# Altium integrated library Linear Technology Power Management LED Driver ICs.IntLib: 490 symbols (part 34 of 48)
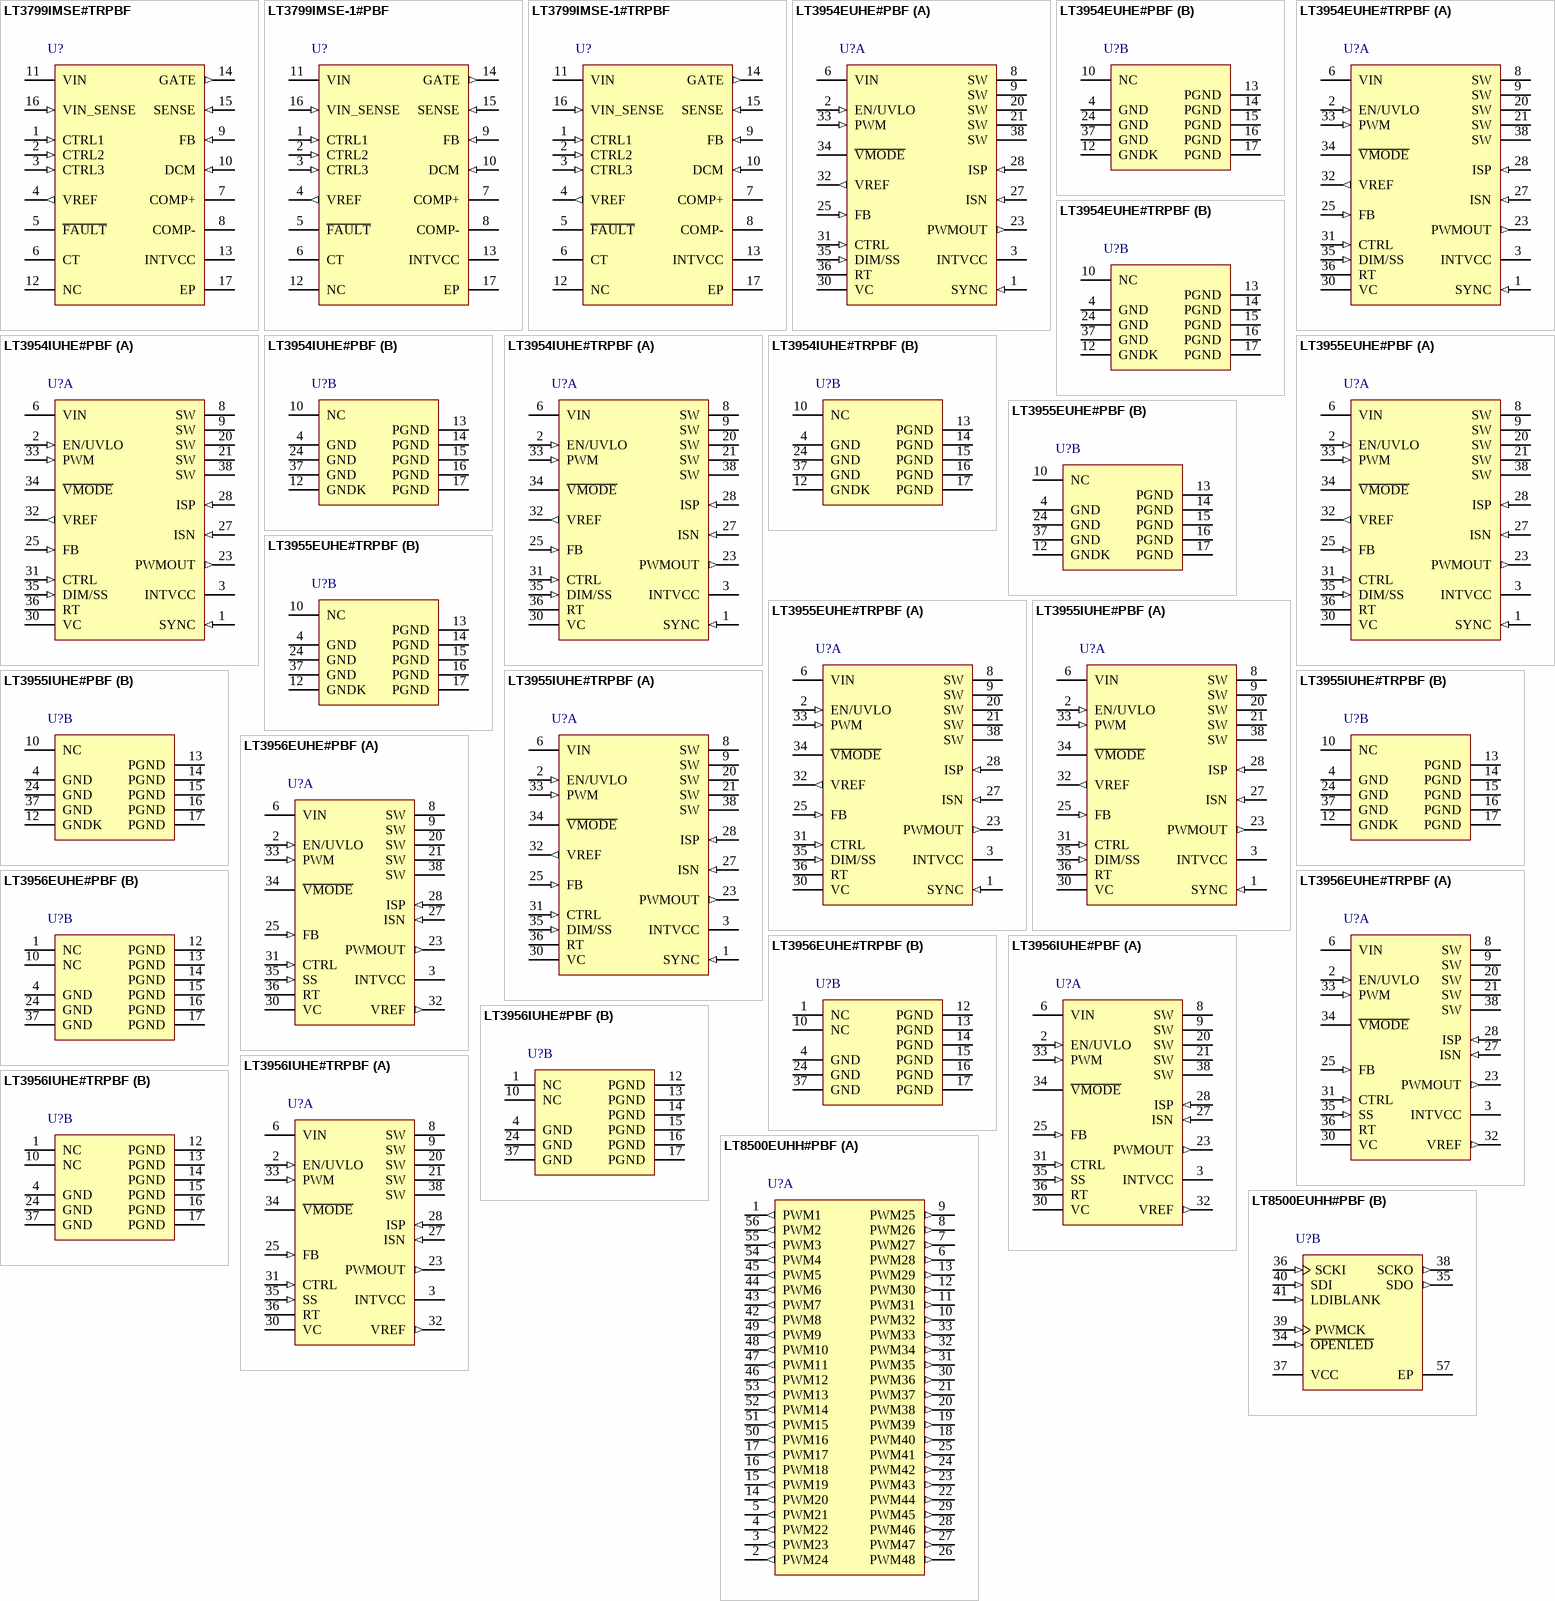
[diagram p53: symbols LT3799IMSE#TRPBF to LT8500EUHH#PBF]

## LT3954IUHE#TRPBF
designator U?
LED Converter with Internal PWM Generator, 4.5 to 40 V Vin, 40 V Vout MAX, 36-pin QFN (UHE-36-V-UHE28MA), -40 to 125 degC, Pb-Free, Tape and Reel; Manufacturer: Linear Technology; PartNumber: LT3954IUHE#TRPBF; Topology: Buck, Boost, Sepic, Buck-Boost, LED Driver; Vin Min(V): 4.5; PackageVersion: Rev. D, 02/2012; PackageReference: UHE-36; PackageDescription: 28-Pin Plastic QFN, Body 5 x 6 mm, Pitch 0.5 mm; Packing: Tape and Reel; RoHS: TRUE; Mounting Technology: Surface Mount; ComponentLink1Description: Manufacturer URL; ComponentLink1URL: http://www.linear.com/; ComponentLink2Description: Datasheet; ComponentLink2URL: http://cds.linear.com/docs/en/datasheet/3954f.pdf; ComponentLink3Description: Package Specification; ComponentLink3URL: http://cds.linear.com/docs/en/packaging/QFN_28_05-08-1836.pdf
footprint LT-UHE-36-V-UHE28MA_V (QFN, 28-Leads, Body 6x5mm, Pitch 0.5mm)
part A pins: 1 SYNC (in) "Frequency Synchronization Pin. Used to synchronize the internal oscillator to an outside clock. If this feature is used, an RT resistor should be chosen to program a switching frequency 20% slower than SYNC pulse frequency. (See Datasheet)", 2 EN/UVLO (in) "Enable and Undervoltage Detect Pin. An accurate 1.22V falling threshold with externally programmable hysteresis causes the switching regulator to shut down when power is insufficient to maintain output regulation. Above the (See Datasheet)", 3 INTVCC (power) "Current limited, low dropout linear regulator regulates to 7.85V (typical) from VIN. Supplies internal loads, SW and PWMOUT drivers. Must be bypassed with a 1uF ceramic capacitor placed close to the pin and to the exposed (See Datasheet)", 6 VIN (power) "Power Supply for Internal Loads and INTVCC Regulator. Must be locally bypassed with a 0.22uF (or larger) low ESR capacitor placed close to the pin.", 8 SW (power) "Drain of Internal Power N-channel MOSFET.", 9 SW (power) "Drain of Internal Power N-channel MOSFET.", 20 SW (power) "Drain of Internal Power N-channel MOSFET.", 21 SW (power) "Drain of Internal Power N-channel MOSFET.", 23 PWMOUT (out) "Buffered Version of PWM Signal for Driving LED Load Disconnect NMOS or Level Shift. This pin also serves in a protection function for the FB overvoltage condition-will toggle if the FB input is greater than the FB regulation (See Datasheet)", 25 FB (in) "Voltage Loop Feedback Pin. FB is intended for constant-voltage regulation or for LED protection and open LED detection. The internal transconductance amplifier with output VC will regulate FB to 1.25V (nominal) through the (See Datasheet)", 27 ISN (in) "Connection Point for the Negative Terminal of the Current Feedback Resistor. The constant output current regulation can be programmed by ILED = 250mV/ RLED when CTRL > 1.2V or ILED = (CTRL - 100mV)/(4 ? RLED). If ISN i(See Datasheet)", 28 ISP (in) "Connection Point for the Positive Terminal of the Current Feedback Resistor. Input bias current depends upon CTRL pin voltage. When it is greater than INTVCC it flows into the pin. Below INTVCC, ISP bias current decreases (See Datasheet)", 30 VC "Transconductance Error Amplifier Output Pin Used to Stabilize the Switching Regulator Control Loop with an RC Network. The VC pin is high impedance when PWM is low. This feature allows the VC pin to store the demand current (See Datasheet)", 31 CTRL (in) "Current Sense Threshold Adjustment Pin. Constant current regulation point VISP-ISN is one-fourth VCTRL plus an offset for 0V = CTRL = 1V. For CTRL > 1.2V the VISP-ISN current regulation point is constant at the full-scale (See Datasheet)", 32 VREF (out) "Voltage Reference Output Pin, Typically 2V. This pin drives a resistor divider for the CTRL pin, either for analog dimming or for temperature limit/compensation of LED load. It can be bypassed with 10nF or greater, or less (See Datasheet)", 33 PWM (in) "A signal low turns off switcher, idles the oscillator and disconnects the VC pin from all internal loads. PWMOUT pin follows the PWM pin, except in fault conditions. The PWM pin can be driven with a digital signal to cause (See Datasheet)", 34 ~{VMODE} (oc) "An open-drain pull-down on this pin asserts if the FB input is greater than the FB regulation voltage (VFB) minus 50mV (typical) AND the differenc between current sense inputs ISP and ISN is less than 25mV. To function, the (See Datasheet)", 35 DIM/SS (in) "Soft-Start and PWM Dimming Signal Generator Programming Pin. This pin modulates switching regulator frequency and compensation pin voltage (VC) clamp when it is below 1V. The soft-start interval is set with an external (See Datasheet)", 36 RT "Switching Frequency Adjustment Pin. Set the frequency using a resistor to GND (for resistor values, see the Typical Performance curve or Table 2). Do not leave the RT pin open. Place the resistor close to the IC.", 38 SW (power) "Drain of Internal Power N-channel MOSFET."
part B pins: 4 GND (power) "Ground. Solder the exposed pads directly to the ground plane.", 10 NC, 12 GNDK (power) "Kelvin Connection Pin between PGND and GND. Kelvin connect this pin to the GND plane close to the IC. See the Board Layout section.", 13 PGND (power) "Source Terminal Switch and the GND Input to the Switch Current Comparator.", 14 PGND (power) "Source Terminal Switch and the GND Input to the Switch Current Comparator.", 15 PGND (power) "Source Terminal Switch and the GND Input to the Switch Current Comparator.", 16 PGND (power) "Source Terminal Switch and the GND Input to the Switch Current Comparator.", 17 PGND (power) "Source Terminal Switch and the GND Input to the Switch Current Comparator.", 24 GND (power) "Ground. Solder the exposed pads directly to the ground plane.", 37 GND (power) "Ground. Solder the exposed pads directly to the ground plane."

## LT3955EUHE#PBF
designator U?
LED Converter with Internal PWM Generator, 4.5 to 60 V Vin, 80 V Vout MAX, 28-pin QFN (UHE-36-V-UHE28MA), -40 to 125 degC, Pb-Free; Manufacturer: Linear Technology; PartNumber: LT3955EUHE#PBF; Topology: Buck, Boost, Sepic, Buck-Boost, LED Driver; Vin Min(V): 4.5; PackageVersion: Rev. D, 02/2012; PackageReference: UHE-36; PackageDescription: 28-Pin Plastic QFN, Body 5 x 6 mm, Pitch 0.5 mm; Supplier 1: Digi-Key; Supplier Part Number 1: LT3955EUHE#PBF-ND; Supplier 2: Newark; Supplier Part Number 2: 04X5428; RoHS: TRUE; Mounting Technology: Surface Mount; ComponentLink1Description: Manufacturer URL; ComponentLink1URL: http://www.linear.com/; ComponentLink2Description: Datasheet; ComponentLink2URL: http://cds.linear.com/docs/en/datasheet/3955f.pdf; ComponentLink3Description: Package Specification; ComponentLink3URL: http://cds.linear.com/docs/en/packaging/QFN_28_05-08-1836.pdf
footprint LT-UHE-36-V-UHE28MA_V (QFN, 28-Leads, Body 6x5mm, Pitch 0.5mm)
part A pins: 1 SYNC (in) "Frequency Synchronization Pin. Used to synchronize the internal oscillator to an outside clock. If this feature is used, an RT resistor should be chosen to program a switching frequency 20% slower than SYNC pulse frequency. (See Datasheet)", 2 EN/UVLO (in) "Enable and Undervoltage Detect Pin. An accurate 1.22V falling threshold with externally programmable hysteresis causes the switching regulator to shut down when power is insufficient to maintain output regulation. Above the (See Datasheet)", 3 INTVCC (power) "Current limited, low dropout linear regulator regulates to 7.85V (typical) from VIN. Supplies internal loads, SW and PWMOUT drivers. Must be bypassed with a 1uF ceramic capacitor placed close to the pin and to the exposed (See Datasheet)", 6 VIN (power) "Power Supply for Internal Loads and INTVCC Regulator. Must be locally bypassed with a 0.22uF (or larger) low ESR capacitor placed close to the pin.", 8 SW (power) "Drain of Internal Power N-channel MOSFET.", 9 SW (power) "Drain of Internal Power N-channel MOSFET.", 20 SW (power) "Drain of Internal Power N-channel MOSFET.", 21 SW (power) "Drain of Internal Power N-channel MOSFET.", 23 PWMOUT (out) "Buffered Version of PWM Signal for Driving LED Load Disconnect NMOS or Level Shift. This pin also serves in a protection function for the FB overvoltage condition-will toggle if the FB input is greater than the FB regulation (See Datasheet)", 25 FB (in) "Voltage Loop Feedback Pin. FB is intended for constant-voltage regulation or for LED protection and open LED detection. The internal transconductance amplifier with output VC will regulate FB to 1.25V (nominal) through the (See Datasheet)", 27 ISN (in) "Connection Point for the Negative Terminal of the Current Feedback Resistor. The constant output current regulation can be programmed by ILED = 250mV/ RLED when CTRL > 1.2V or ILED = (CTRL - 100mV)/(4 ? RLED). If ISN i(See Datasheet)", 28 ISP (in) "Connection Point for the Positive Terminal of the Current Feedback Resistor. Input bias current depends upon CTRL pin voltage. When it is greater than INTVCC it flows into the pin. Below INTVCC, ISP bias current decreases (See Datasheet)", 30 VC "Transconductance Error Amplifier Output Pin Used to Stabilize the Switching Regulator Control Loop with an RC Network. The VC pin is high impedance when PWM is low. This feature allows the VC pin to store the demand current (See Datasheet)", 31 CTRL (in) "Current Sense Threshold Adjustment Pin. Constant current regulation point VISP-ISN is one-fourth VCTRL plus an offset for 0V = CTRL = 1V. For CTRL > 1.2V the VISP-ISN current regulation point is constant at the full-scale (See Datasheet)", 32 VREF (out) "Voltage Reference Output Pin, Typically 2V. This pin drives a resistor divider for the CTRL pin, either for analog dimming or for temperature limit/compensation of LED load. It can be bypassed with 10nF or greater, or less (See Datasheet)", 33 PWM (in) "A signal low turns off switcher, idles the oscillator and disconnects the VC pin from all internal loads. PWMOUT pin follows the PWM pin, except in fault conditions. The PWM pin can be driven with a digital signal to cause (See Datasheet)", 34 ~{VMODE} (oc) "An open-drain pull-down on this pin asserts if the FB input is greater than the FB regulation voltage (VFB) minus 50mV (typical) AND the differenc between current sense inputs ISP and ISN is less than 25mV. To function, the (See Datasheet)", 35 DIM/SS (in) "Soft-Start and PWM Dimming Signal Generator Programming Pin. This pin modulates switching regulator frequency and compensation pin voltage (VC) clamp when it is below 1V. The soft-start interval is set with an external (See Datasheet)", 36 RT "Switching Frequency Adjustment Pin. Set the frequency using a resistor to GND (for resistor values, see the Typical Performance curve or Table 2). Do not leave the RT pin open. Place the resistor close to the IC.", 38 SW (power) "Drain of Internal Power N-channel MOSFET."
part B pins: 4 GND (power) "Ground. Solder the exposed pads directly to the ground plane.", 10 NC, 12 GNDK (power) "Kelvin Connection Pin between PGND and GND. Kelvin connect this pin to the GND plane close to the IC. See the Board Layout section.", 13 PGND (power) "Source Terminal Switch and the GND Input to the Switch Current Comparator.", 14 PGND (power) "Source Terminal Switch and the GND Input to the Switch Current Comparator.", 15 PGND (power) "Source Terminal Switch and the GND Input to the Switch Current Comparator.", 16 PGND (power) "Source Terminal Switch and the GND Input to the Switch Current Comparator.", 17 PGND (power) "Source Terminal Switch and the GND Input to the Switch Current Comparator.", 24 GND (power) "Ground. Solder the exposed pads directly to the ground plane.", 37 GND (power) "Ground. Solder the exposed pads directly to the ground plane."

## LT3955EUHE#TRPBF
designator U?
LED Converter with Internal PWM Generator, 4.5 to 60 V Vin, 80 V Vout MAX, 28-pin QFN (UHE-36-V-UHE28MA), -40 to 125 degC, Pb-Free, Tape and Reel; Manufacturer: Linear Technology; PartNumber: LT3955EUHE#TRPBF; Topology: Buck, Boost, Sepic, Buck-Boost, LED Driver; Vin Min(V): 4.5; PackageVersion: Rev. D, 02/2012; PackageReference: UHE-36; PackageDescription: 28-Pin Plastic QFN, Body 5 x 6 mm, Pitch 0.5 mm; Supplier 1: Digi-Key; Supplier Part Number 1: LT3955EUHE#TRPBF-ND; Supplier 2: Newark; Supplier Part Number 2: 04X5429; Packing: Tape and Reel; RoHS: TRUE; Mounting Technology: Surface Mount; ComponentLink1Description: Manufacturer URL; ComponentLink1URL: http://www.linear.com/; ComponentLink2Description: Datasheet; ComponentLink2URL: http://cds.linear.com/docs/en/datasheet/3955f.pdf; ComponentLink3Description: Package Specification; ComponentLink3URL: http://cds.linear.com/docs/en/packaging/QFN_28_05-08-1836.pdf
footprint LT-UHE-36-V-UHE28MA_V (QFN, 28-Leads, Body 6x5mm, Pitch 0.5mm)
part A pins: 1 SYNC (in) "Frequency Synchronization Pin. Used to synchronize the internal oscillator to an outside clock. If this feature is used, an RT resistor should be chosen to program a switching frequency 20% slower than SYNC pulse frequency. (See Datasheet)", 2 EN/UVLO (in) "Enable and Undervoltage Detect Pin. An accurate 1.22V falling threshold with externally programmable hysteresis causes the switching regulator to shut down when power is insufficient to maintain output regulation. Above the (See Datasheet)", 3 INTVCC (power) "Current limited, low dropout linear regulator regulates to 7.85V (typical) from VIN. Supplies internal loads, SW and PWMOUT drivers. Must be bypassed with a 1uF ceramic capacitor placed close to the pin and to the exposed (See Datasheet)", 6 VIN (power) "Power Supply for Internal Loads and INTVCC Regulator. Must be locally bypassed with a 0.22uF (or larger) low ESR capacitor placed close to the pin.", 8 SW (power) "Drain of Internal Power N-channel MOSFET.", 9 SW (power) "Drain of Internal Power N-channel MOSFET.", 20 SW (power) "Drain of Internal Power N-channel MOSFET.", 21 SW (power) "Drain of Internal Power N-channel MOSFET.", 23 PWMOUT (out) "Buffered Version of PWM Signal for Driving LED Load Disconnect NMOS or Level Shift. This pin also serves in a protection function for the FB overvoltage condition-will toggle if the FB input is greater than the FB regulation (See Datasheet)", 25 FB (in) "Voltage Loop Feedback Pin. FB is intended for constant-voltage regulation or for LED protection and open LED detection. The internal transconductance amplifier with output VC will regulate FB to 1.25V (nominal) through the (See Datasheet)", 27 ISN (in) "Connection Point for the Negative Terminal of the Current Feedback Resistor. The constant output current regulation can be programmed by ILED = 250mV/ RLED when CTRL > 1.2V or ILED = (CTRL - 100mV)/(4 ? RLED). If ISN i(See Datasheet)", 28 ISP (in) "Connection Point for the Positive Terminal of the Current Feedback Resistor. Input bias current depends upon CTRL pin voltage. When it is greater than INTVCC it flows into the pin. Below INTVCC, ISP bias current decreases (See Datasheet)", 30 VC "Transconductance Error Amplifier Output Pin Used to Stabilize the Switching Regulator Control Loop with an RC Network. The VC pin is high impedance when PWM is low. This feature allows the VC pin to store the demand current (See Datasheet)", 31 CTRL (in) "Current Sense Threshold Adjustment Pin. Constant current regulation point VISP-ISN is one-fourth VCTRL plus an offset for 0V = CTRL = 1V. For CTRL > 1.2V the VISP-ISN current regulation point is constant at the full-scale (See Datasheet)", 32 VREF (out) "Voltage Reference Output Pin, Typically 2V. This pin drives a resistor divider for the CTRL pin, either for analog dimming or for temperature limit/compensation of LED load. It can be bypassed with 10nF or greater, or less (See Datasheet)", 33 PWM (in) "A signal low turns off switcher, idles the oscillator and disconnects the VC pin from all internal loads. PWMOUT pin follows the PWM pin, except in fault conditions. The PWM pin can be driven with a digital signal to cause (See Datasheet)", 34 ~{VMODE} (oc) "An open-drain pull-down on this pin asserts if the FB input is greater than the FB regulation voltage (VFB) minus 50mV (typical) AND the differenc between current sense inputs ISP and ISN is less than 25mV. To function, the (See Datasheet)", 35 DIM/SS (in) "Soft-Start and PWM Dimming Signal Generator Programming Pin. This pin modulates switching regulator frequency and compensation pin voltage (VC) clamp when it is below 1V. The soft-start interval is set with an external (See Datasheet)", 36 RT "Switching Frequency Adjustment Pin. Set the frequency using a resistor to GND (for resistor values, see the Typical Performance curve or Table 2). Do not leave the RT pin open. Place the resistor close to the IC.", 38 SW (power) "Drain of Internal Power N-channel MOSFET."
part B pins: 4 GND (power) "Ground. Solder the exposed pads directly to the ground plane.", 10 NC, 12 GNDK (power) "Kelvin Connection Pin between PGND and GND. Kelvin connect this pin to the GND plane close to the IC. See the Board Layout section.", 13 PGND (power) "Source Terminal Switch and the GND Input to the Switch Current Comparator.", 14 PGND (power) "Source Terminal Switch and the GND Input to the Switch Current Comparator.", 15 PGND (power) "Source Terminal Switch and the GND Input to the Switch Current Comparator.", 16 PGND (power) "Source Terminal Switch and the GND Input to the Switch Current Comparator.", 17 PGND (power) "Source Terminal Switch and the GND Input to the Switch Current Comparator.", 24 GND (power) "Ground. Solder the exposed pads directly to the ground plane.", 37 GND (power) "Ground. Solder the exposed pads directly to the ground plane."

## LT3955IUHE#PBF
designator U?
LED Converter with Internal PWM Generator, 4.5 to 60 V Vin, 80 V Vout MAX, 28-pin QFN (UHE-36-V-UHE28MA), -40 to 125 degC, Pb-Free; Manufacturer: Linear Technology; PartNumber: LT3955IUHE#PBF; Topology: Buck, Boost, Sepic, Buck-Boost, LED Driver; Vin Min(V): 4.5; PackageVersion: Rev. D, 02/2012; PackageReference: UHE-36; PackageDescription: 28-Pin Plastic QFN, Body 5 x 6 mm, Pitch 0.5 mm; Supplier 1: Digi-Key; Supplier Part Number 1: LT3955IUHE#PBF-ND; Supplier 2: Newark; Supplier Part Number 2: 04X5430; RoHS: TRUE; Mounting Technology: Surface Mount; ComponentLink1Description: Manufacturer URL; ComponentLink1URL: http://www.linear.com/; ComponentLink2Description: Datasheet; ComponentLink2URL: http://cds.linear.com/docs/en/datasheet/3955f.pdf; ComponentLink3Description: Package Specification; ComponentLink3URL: http://cds.linear.com/docs/en/packaging/QFN_28_05-08-1836.pdf
footprint LT-UHE-36-V-UHE28MA_V (QFN, 28-Leads, Body 6x5mm, Pitch 0.5mm)
part A pins: 1 SYNC (in) "Frequency Synchronization Pin. Used to synchronize the internal oscillator to an outside clock. If this feature is used, an RT resistor should be chosen to program a switching frequency 20% slower than SYNC pulse frequency. (See Datasheet)", 2 EN/UVLO (in) "Enable and Undervoltage Detect Pin. An accurate 1.22V falling threshold with externally programmable hysteresis causes the switching regulator to shut down when power is insufficient to maintain output regulation. Above the (See Datasheet)", 3 INTVCC (power) "Current limited, low dropout linear regulator regulates to 7.85V (typical) from VIN. Supplies internal loads, SW and PWMOUT drivers. Must be bypassed with a 1uF ceramic capacitor placed close to the pin and to the exposed (See Datasheet)", 6 VIN (power) "Power Supply for Internal Loads and INTVCC Regulator. Must be locally bypassed with a 0.22uF (or larger) low ESR capacitor placed close to the pin.", 8 SW (power) "Drain of Internal Power N-channel MOSFET.", 9 SW (power) "Drain of Internal Power N-channel MOSFET.", 20 SW (power) "Drain of Internal Power N-channel MOSFET.", 21 SW (power) "Drain of Internal Power N-channel MOSFET.", 23 PWMOUT (out) "Buffered Version of PWM Signal for Driving LED Load Disconnect NMOS or Level Shift. This pin also serves in a protection function for the FB overvoltage condition-will toggle if the FB input is greater than the FB regulation (See Datasheet)", 25 FB (in) "Voltage Loop Feedback Pin. FB is intended for constant-voltage regulation or for LED protection and open LED detection. The internal transconductance amplifier with output VC will regulate FB to 1.25V (nominal) through the (See Datasheet)", 27 ISN (in) "Connection Point for the Negative Terminal of the Current Feedback Resistor. The constant output current regulation can be programmed by ILED = 250mV/ RLED when CTRL > 1.2V or ILED = (CTRL - 100mV)/(4 ? RLED). If ISN i(See Datasheet)", 28 ISP (in) "Connection Point for the Positive Terminal of the Current Feedback Resistor. Input bias current depends upon CTRL pin voltage. When it is greater than INTVCC it flows into the pin. Below INTVCC, ISP bias current decreases (See Datasheet)", 30 VC "Transconductance Error Amplifier Output Pin Used to Stabilize the Switching Regulator Control Loop with an RC Network. The VC pin is high impedance when PWM is low. This feature allows the VC pin to store the demand current (See Datasheet)", 31 CTRL (in) "Current Sense Threshold Adjustment Pin. Constant current regulation point VISP-ISN is one-fourth VCTRL plus an offset for 0V = CTRL = 1V. For CTRL > 1.2V the VISP-ISN current regulation point is constant at the full-scale (See Datasheet)", 32 VREF (out) "Voltage Reference Output Pin, Typically 2V. This pin drives a resistor divider for the CTRL pin, either for analog dimming or for temperature limit/compensation of LED load. It can be bypassed with 10nF or greater, or less (See Datasheet)", 33 PWM (in) "A signal low turns off switcher, idles the oscillator and disconnects the VC pin from all internal loads. PWMOUT pin follows the PWM pin, except in fault conditions. The PWM pin can be driven with a digital signal to cause (See Datasheet)", 34 ~{VMODE} (oc) "An open-drain pull-down on this pin asserts if the FB input is greater than the FB regulation voltage (VFB) minus 50mV (typical) AND the differenc between current sense inputs ISP and ISN is less than 25mV. To function, the (See Datasheet)", 35 DIM/SS (in) "Soft-Start and PWM Dimming Signal Generator Programming Pin. This pin modulates switching regulator frequency and compensation pin voltage (VC) clamp when it is below 1V. The soft-start interval is set with an external (See Datasheet)", 36 RT "Switching Frequency Adjustment Pin. Set the frequency using a resistor to GND (for resistor values, see the Typical Performance curve or Table 2). Do not leave the RT pin open. Place the resistor close to the IC.", 38 SW (power) "Drain of Internal Power N-channel MOSFET."
part B pins: 4 GND (power) "Ground. Solder the exposed pads directly to the ground plane.", 10 NC, 12 GNDK (power) "Kelvin Connection Pin between PGND and GND. Kelvin connect this pin to the GND plane close to the IC. See the Board Layout section.", 13 PGND (power) "Source Terminal Switch and the GND Input to the Switch Current Comparator.", 14 PGND (power) "Source Terminal Switch and the GND Input to the Switch Current Comparator.", 15 PGND (power) "Source Terminal Switch and the GND Input to the Switch Current Comparator.", 16 PGND (power) "Source Terminal Switch and the GND Input to the Switch Current Comparator.", 17 PGND (power) "Source Terminal Switch and the GND Input to the Switch Current Comparator.", 24 GND (power) "Ground. Solder the exposed pads directly to the ground plane.", 37 GND (power) "Ground. Solder the exposed pads directly to the ground plane."

## LT3955IUHE#TRPBF
designator U?
LED Converter with Internal PWM Generator, 4.5 to 60 V Vin, 80 V Vout MAX, 28-pin QFN (UHE-36-V-UHE28MA), -40 to 125 degC, Pb-Free, Tape and Reel; Manufacturer: Linear Technology; PartNumber: LT3955IUHE#TRPBF; Topology: Buck, Boost, Sepic, Buck-Boost, LED Driver; Vin Min(V): 4.5; PackageVersion: Rev. D, 02/2012; PackageReference: UHE-36; PackageDescription: 28-Pin Plastic QFN, Body 5 x 6 mm, Pitch 0.5 mm; Supplier 1: Digi-Key; Supplier Part Number 1: LT3955IUHE#TRPBF-ND; Supplier 2: Newark; Supplier Part Number 2: 04X5431; Packing: Tape and Reel; RoHS: TRUE; Mounting Technology: Surface Mount; ComponentLink1Description: Manufacturer URL; ComponentLink1URL: http://www.linear.com/; ComponentLink2Description: Datasheet; ComponentLink2URL: http://cds.linear.com/docs/en/datasheet/3955f.pdf; ComponentLink3Description: Package Specification; ComponentLink3URL: http://cds.linear.com/docs/en/packaging/QFN_28_05-08-1836.pdf
footprint LT-UHE-36-V-UHE28MA_V (QFN, 28-Leads, Body 6x5mm, Pitch 0.5mm)
part A pins: 1 SYNC (in) "Frequency Synchronization Pin. Used to synchronize the internal oscillator to an outside clock. If this feature is used, an RT resistor should be chosen to program a switching frequency 20% slower than SYNC pulse frequency. (See Datasheet)", 2 EN/UVLO (in) "Enable and Undervoltage Detect Pin. An accurate 1.22V falling threshold with externally programmable hysteresis causes the switching regulator to shut down when power is insufficient to maintain output regulation. Above the (See Datasheet)", 3 INTVCC (power) "Current limited, low dropout linear regulator regulates to 7.85V (typical) from VIN. Supplies internal loads, SW and PWMOUT drivers. Must be bypassed with a 1uF ceramic capacitor placed close to the pin and to the exposed (See Datasheet)", 6 VIN (power) "Power Supply for Internal Loads and INTVCC Regulator. Must be locally bypassed with a 0.22uF (or larger) low ESR capacitor placed close to the pin.", 8 SW (power) "Drain of Internal Power N-channel MOSFET.", 9 SW (power) "Drain of Internal Power N-channel MOSFET.", 20 SW (power) "Drain of Internal Power N-channel MOSFET.", 21 SW (power) "Drain of Internal Power N-channel MOSFET.", 23 PWMOUT (out) "Buffered Version of PWM Signal for Driving LED Load Disconnect NMOS or Level Shift. This pin also serves in a protection function for the FB overvoltage condition-will toggle if the FB input is greater than the FB regulation (See Datasheet)", 25 FB (in) "Voltage Loop Feedback Pin. FB is intended for constant-voltage regulation or for LED protection and open LED detection. The internal transconductance amplifier with output VC will regulate FB to 1.25V (nominal) through the (See Datasheet)", 27 ISN (in) "Connection Point for the Negative Terminal of the Current Feedback Resistor. The constant output current regulation can be programmed by ILED = 250mV/ RLED when CTRL > 1.2V or ILED = (CTRL - 100mV)/(4 ? RLED). If ISN i(See Datasheet)", 28 ISP (in) "Connection Point for the Positive Terminal of the Current Feedback Resistor. Input bias current depends upon CTRL pin voltage. When it is greater than INTVCC it flows into the pin. Below INTVCC, ISP bias current decreases (See Datasheet)", 30 VC "Transconductance Error Amplifier Output Pin Used to Stabilize the Switching Regulator Control Loop with an RC Network. The VC pin is high impedance when PWM is low. This feature allows the VC pin to store the demand current (See Datasheet)", 31 CTRL (in) "Current Sense Threshold Adjustment Pin. Constant current regulation point VISP-ISN is one-fourth VCTRL plus an offset for 0V = CTRL = 1V. For CTRL > 1.2V the VISP-ISN current regulation point is constant at the full-scale (See Datasheet)", 32 VREF (out) "Voltage Reference Output Pin, Typically 2V. This pin drives a resistor divider for the CTRL pin, either for analog dimming or for temperature limit/compensation of LED load. It can be bypassed with 10nF or greater, or less (See Datasheet)", 33 PWM (in) "A signal low turns off switcher, idles the oscillator and disconnects the VC pin from all internal loads. PWMOUT pin follows the PWM pin, except in fault conditions. The PWM pin can be driven with a digital signal to cause (See Datasheet)", 34 ~{VMODE} (oc) "An open-drain pull-down on this pin asserts if the FB input is greater than the FB regulation voltage (VFB) minus 50mV (typical) AND the differenc between current sense inputs ISP and ISN is less than 25mV. To function, the (See Datasheet)", 35 DIM/SS (in) "Soft-Start and PWM Dimming Signal Generator Programming Pin. This pin modulates switching regulator frequency and compensation pin voltage (VC) clamp when it is below 1V. The soft-start interval is set with an external (See Datasheet)", 36 RT "Switching Frequency Adjustment Pin. Set the frequency using a resistor to GND (for resistor values, see the Typical Performance curve or Table 2). Do not leave the RT pin open. Place the resistor close to the IC.", 38 SW (power) "Drain of Internal Power N-channel MOSFET."
part B pins: 4 GND (power) "Ground. Solder the exposed pads directly to the ground plane.", 10 NC, 12 GNDK (power) "Kelvin Connection Pin between PGND and GND. Kelvin connect this pin to the GND plane close to the IC. See the Board Layout section.", 13 PGND (power) "Source Terminal Switch and the GND Input to the Switch Current Comparator.", 14 PGND (power) "Source Terminal Switch and the GND Input to the Switch Current Comparator.", 15 PGND (power) "Source Terminal Switch and the GND Input to the Switch Current Comparator.", 16 PGND (power) "Source Terminal Switch and the GND Input to the Switch Current Comparator.", 17 PGND (power) "Source Terminal Switch and the GND Input to the Switch Current Comparator.", 24 GND (power) "Ground. Solder the exposed pads directly to the ground plane.", 37 GND (power) "Ground. Solder the exposed pads directly to the ground plane."

## LT3956EUHE#PBF
designator U?
Constant-Current, Constant-Voltage Converter, 4.5 to 80 V Vin, 80 V Vout MAX, 28-pin QFN (UHE-36-V-UHE28MA), -40 to 125 degC, Pb-Free; Manufacturer: Linear Technology; PartNumber: LT3956EUHE#PBF; Topology: Buck, Boost, Buck-Boost, Sepic, Flyback, LED Driver; Vin Min(V): 4.5; PackageVersion: Rev. D, 02/2012; PackageReference: UHE-36; PackageDescription: 28-Pin Plastic QFN, Body 5 x 6 mm, Pitch 0.5 mm; Supplier 1: Digi-Key; Supplier Part Number 1: LT3956EUHE#PBF-ND; Supplier 2: Newark; Supplier Part Number 2: 78R8988; RoHS: TRUE; Mounting Technology: Surface Mount; ComponentLink1Description: Manufacturer URL; ComponentLink1URL: http://www.linear.com/; ComponentLink2Description: Datasheet; ComponentLink2URL: http://cds.linear.com/docs/en/datasheet/3956f.pdf; ComponentLink3Description: Package Specification; ComponentLink3URL: http://cds.linear.com/docs/en/packaging/QFN_28_05-08-1836.pdf
footprint LT-UHE-36-V-UHE28MA_V (QFN, 28-Leads, Body 6x5mm, Pitch 0.5mm)
part A pins: 2 EN/UVLO (in) "Shutdown and Undervoltage Detect Pin. An accurate 1.22V falling threshold with externally programmable hysteresis detects when power is OK to enable switching. Rising hysteresis is generated by the external resistor divider (See Datasheet)", 3 INTVCC (power) "Regulated supply for internal loads, GATE driver and PWMOUT driver. Supplied from VIN and regulates to 7.15V (typical). INTVCC must be bypassed with a 4.7uF capacitor placed close to the pin. Connect INTVCC directly to VIN (See Datasheet)", 6 VIN (power) "Input Supply Pin. Must be locally bypassed with a 0.22uF (or larger) capacitor to PGND placed close to the IC.", 8 SW (power) "The drain of the switching N-channel MOSFET and must be connected to the external inductor.", 9 SW (power) "The drain of the switching N-channel MOSFET and must be connected to the external inductor.", 20 SW (power) "The drain of the switching N-channel MOSFET and must be connected to the external inductor.", 21 SW (power) "The drain of the switching N-channel MOSFET and must be connected to the external inductor.", 23 PWMOUT (out) "Buffered Version of the PWM Signal. This pin is used to drive the LED load disconnect N-channel MOSFET or level shift. This pin also serves in a protection function for the FB overvoltage condition-will toggle if the FB (See Datasheet)", 25 FB (in) "Voltage Loop Feedback Pin. FB is intended for constant-voltage regulation or for LED protection/open LED detection. The internal transconductance amplifier with output VC will regulate FB to 1.25V (nominal) through the DC/DC (See Datasheet)", 27 ISN (in) "Connection point for the negative terminal of the current feedback resistor. If ISN is greater than 2.9V, the LED current can be programmed by ILED = 250mV/RLED when VCTRL > 1.2V or ILED = (VCTRL -100mV)/(4 ? RLED) i(See Datasheet)", 28 ISP (in) "Connection point for the positive terminal of the current feedback resistor. Input bias current for this pin depends on CTRL pin voltage, as shown in the Typical Performance Characteristics. ISP is an input to the (See Datasheet)", 30 VC "Transconductance Error Amplifier Output Pin. This pin is used to stabilize the voltage loop with an RC network. This pin is high impedance when PWM is low, a feature that stores the demand current state variable for the next (See Datasheet)", 31 CTRL (in) "Current Sense Threshold Adjustment Pin. Regula-ting threshold V(ISP - ISN) is 0.25 ? VCTRL plus an offset for 0V < VCTRL < 1V. For VCTRL > 1.2V the current sense threshold is constant at the full-scale value of 250mV. Fo(See Datasheet)", 32 VREF (out) "Voltage Reference Output Pin (typically 2V). This pin drives a resistor divider for the CTRL pin, either for analog dimming or for temperature limit/compensation of LED load. Can supply up to 100uA.", 33 PWM (in) "A signal low turns off switcher, idles oscillator and disconnects VC pin from all internal loads. PWMOUT pin follows PWM pin. PWM has an internal pull-down resistor. If not used, connect to INTVCC.", 34 ~{VMODE} (oc) "An open-collector pull-down on V\M\O\D\E\ asserts if the FB input is greater than the FB regulation threshold minus 50mV (typical). To function, the pin requires an external pull-up resistor. When the PWM input is low and (See Datasheet)", 35 SS (in) "Soft-Start Pin. This pin modulates oscillator frequency and compensation pin voltage (VC) clamp. The soft-start interval is set with an external capacitor. The pin has a 10uA (typical) pull-up current source to an internal 2.(See Datasheet)", 36 RT "Switching Frequency Adjustment Pin. Set the frequency using a resistor to GND (for resistor values, see the Typical Performance curve or Table 1). Do not leave the RT pin open.", 38 SW (power) "The exposed pad, Pin 38, is the drain of the switching N-channel MOSFET and must be connected to the external inductor."
part B pins: 1 NC "No Internal Connection. These pins may be left floating or connected to an adjacent pin.", 4 GND (power) "Ground. The exposed pad, Pin 37, is ground and must be soldered directly to the ground plane.", 10 NC "No Internal Connection. These pins may be left floating or connected to an adjacent pin.", 12 PGND (power) "Source terminal of switch and the GND input to the switch current comparator. Kelvin connect to the GND plane close to the IC using Pin 12.", 13 PGND (power) "Source terminal of switch and the GND input to the switch current comparator. Kelvin connect to the GND plane close to the IC using Pin 12. Pins 13 should be connected externally to the PGND terminals of components in the (See Datasheet)", 14 PGND (power) "Source terminal of switch and the GND input to the switch current comparator. Kelvin connect to the GND plane close to the IC using Pin 12. Pins 14 should be connected externally to the PGND terminals of components in the (See Datasheet)", 15 PGND (power) "Source terminal of switch and the GND input to the switch current comparator. Kelvin connect to the GND plane close to the IC using Pin 12. Pins 15 should be connected externally to the PGND terminals of components in the (See Datasheet)", 16 PGND (power) "Source terminal of switch and the GND input to the switch current comparator. Kelvin connect to the GND plane close to the IC using Pin 12. Pins 16 should be connected externally to the PGND terminals of components in the (See Datasheet)", 17 PGND (power) "Source terminal of switch and the GND input to the switch current comparator. Kelvin connect to the GND plane close to the IC using Pin 12. Pins 17 should be connected externally to the PGND terminals of components in the (See Datasheet)", 24 GND (power) "Ground.", 37 GND (power) "Ground. The exposed pad, Pin 37, is ground and must be soldered directly to the ground plane."

## LT3956EUHE#TRPBF
designator U?
Constant-Current, Constant-Voltage Converter, 4.5 to 80 V Vin, 80 V Vout MAX, 28-pin QFN (UHE-36-V-UHE28MA), -40 to 125 degC, Pb-Free, Tape and Reel; Manufacturer: Linear Technology; PartNumber: LT3956EUHE#TRPBF; Topology: Buck, Boost, Buck-Boost, Sepic, Flyback, LED Driver; Vin Min(V): 4.5; PackageVersion: Rev. D, 02/2012; PackageReference: UHE-36; PackageDescription: 28-Pin Plastic QFN, Body 5 x 6 mm, Pitch 0.5 mm; Supplier 1: Digi-Key; Supplier Part Number 1: LT3956EUHE#TRPBF-ND; Packing: Tape and Reel; RoHS: TRUE; Mounting Technology: Surface Mount; ComponentLink1Description: Manufacturer URL; ComponentLink1URL: http://www.linear.com/; ComponentLink2Description: Datasheet; ComponentLink2URL: http://cds.linear.com/docs/en/datasheet/3956f.pdf; ComponentLink3Description: Package Specification; ComponentLink3URL: http://cds.linear.com/docs/en/packaging/QFN_28_05-08-1836.pdf
footprint LT-UHE-36-V-UHE28MA_V (QFN, 28-Leads, Body 6x5mm, Pitch 0.5mm)
part A pins: 2 EN/UVLO (in) "Shutdown and Undervoltage Detect Pin. An accurate 1.22V falling threshold with externally programmable hysteresis detects when power is OK to enable switching. Rising hysteresis is generated by the external resistor divider (See Datasheet)", 3 INTVCC (power) "Regulated supply for internal loads, GATE driver and PWMOUT driver. Supplied from VIN and regulates to 7.15V (typical). INTVCC must be bypassed with a 4.7uF capacitor placed close to the pin. Connect INTVCC directly to VIN (See Datasheet)", 6 VIN (power) "Input Supply Pin. Must be locally bypassed with a 0.22uF (or larger) capacitor to PGND placed close to the IC.", 8 SW (power) "The drain of the switching N-channel MOSFET and must be connected to the external inductor.", 9 SW (power) "The drain of the switching N-channel MOSFET and must be connected to the external inductor.", 20 SW (power) "The drain of the switching N-channel MOSFET and must be connected to the external inductor.", 21 SW (power) "The drain of the switching N-channel MOSFET and must be connected to the external inductor.", 23 PWMOUT (out) "Buffered Version of the PWM Signal. This pin is used to drive the LED load disconnect N-channel MOSFET or level shift. This pin also serves in a protection function for the FB overvoltage condition-will toggle if the FB (See Datasheet)", 25 FB (in) "Voltage Loop Feedback Pin. FB is intended for constant-voltage regulation or for LED protection/open LED detection. The internal transconductance amplifier with output VC will regulate FB to 1.25V (nominal) through the DC/DC (See Datasheet)", 27 ISN (in) "Connection point for the negative terminal of the current feedback resistor. If ISN is greater than 2.9V, the LED current can be programmed by ILED = 250mV/RLED when VCTRL > 1.2V or ILED = (VCTRL -100mV)/(4 ? RLED) i(See Datasheet)", 28 ISP (in) "Connection point for the positive terminal of the current feedback resistor. Input bias current for this pin depends on CTRL pin voltage, as shown in the Typical Performance Characteristics. ISP is an input to the (See Datasheet)", 30 VC "Transconductance Error Amplifier Output Pin. This pin is used to stabilize the voltage loop with an RC network. This pin is high impedance when PWM is low, a feature that stores the demand current state variable for the next (See Datasheet)", 31 CTRL (in) "Current Sense Threshold Adjustment Pin. Regula-ting threshold V(ISP - ISN) is 0.25 ? VCTRL plus an offset for 0V < VCTRL < 1V. For VCTRL > 1.2V the current sense threshold is constant at the full-scale value of 250mV. Fo(See Datasheet)", 32 VREF (out) "Voltage Reference Output Pin (typically 2V). This pin drives a resistor divider for the CTRL pin, either for analog dimming or for temperature limit/compensation of LED load. Can supply up to 100uA.", 33 PWM (in) "A signal low turns off switcher, idles oscillator and disconnects VC pin from all internal loads. PWMOUT pin follows PWM pin. PWM has an internal pull-down resistor. If not used, connect to INTVCC.", 34 ~{VMODE} (oc) "An open-collector pull-down on V\M\O\D\E\ asserts if the FB input is greater than the FB regulation threshold minus 50mV (typical). To function, the pin requires an external pull-up resistor. When the PWM input is low and (See Datasheet)", 35 SS (in) "Soft-Start Pin. This pin modulates oscillator frequency and compensation pin voltage (VC) clamp. The soft-start interval is set with an external capacitor. The pin has a 10uA (typical) pull-up current source to an internal 2.(See Datasheet)", 36 RT "Switching Frequency Adjustment Pin. Set the frequency using a resistor to GND (for resistor values, see the Typical Performance curve or Table 1). Do not leave the RT pin open.", 38 SW (power) "The exposed pad, Pin 38, is the drain of the switching N-channel MOSFET and must be connected to the external inductor."
part B pins: 1 NC "No Internal Connection. These pins may be left floating or connected to an adjacent pin.", 4 GND (power) "Ground. The exposed pad, Pin 37, is ground and must be soldered directly to the ground plane.", 10 NC "No Internal Connection. These pins may be left floating or connected to an adjacent pin.", 12 PGND (power) "Source terminal of switch and the GND input to the switch current comparator. Kelvin connect to the GND plane close to the IC using Pin 12.", 13 PGND (power) "Source terminal of switch and the GND input to the switch current comparator. Kelvin connect to the GND plane close to the IC using Pin 12. Pins 13 should be connected externally to the PGND terminals of components in the (See Datasheet)", 14 PGND (power) "Source terminal of switch and the GND input to the switch current comparator. Kelvin connect to the GND plane close to the IC using Pin 12. Pins 14 should be connected externally to the PGND terminals of components in the (See Datasheet)", 15 PGND (power) "Source terminal of switch and the GND input to the switch current comparator. Kelvin connect to the GND plane close to the IC using Pin 12. Pins 15 should be connected externally to the PGND terminals of components in the (See Datasheet)", 16 PGND (power) "Source terminal of switch and the GND input to the switch current comparator. Kelvin connect to the GND plane close to the IC using Pin 12. Pins 16 should be connected externally to the PGND terminals of components in the (See Datasheet)", 17 PGND (power) "Source terminal of switch and the GND input to the switch current comparator. Kelvin connect to the GND plane close to the IC using Pin 12. Pins 17 should be connected externally to the PGND terminals of components in the (See Datasheet)", 24 GND (power) "Ground.", 37 GND (power) "Ground. The exposed pad, Pin 37, is ground and must be soldered directly to the ground plane."

## LT3956IUHE#PBF
designator U?
Constant-Current, Constant-Voltage Converter, 4.5 to 80 V Vin, 80 V Vout MAX, 28-pin QFN (UHE-36-V-UHE28MA), -40 to 125 degC, Pb-Free; Manufacturer: Linear Technology; PartNumber: LT3956IUHE#PBF; Topology: Buck, Boost, Buck-Boost, Sepic, Flyback, LED Driver; Vin Min(V): 4.5; PackageVersion: Rev. D, 02/2012; PackageReference: UHE-36; PackageDescription: 28-Pin Plastic QFN, Body 5 x 6 mm, Pitch 0.5 mm; Supplier 1: Digi-Key; Supplier Part Number 1: LT3956IUHE#PBF-ND; Supplier 2: Newark; Supplier Part Number 2: 78R8990; RoHS: TRUE; Mounting Technology: Surface Mount; ComponentLink1Description: Manufacturer URL; ComponentLink1URL: http://www.linear.com/; ComponentLink2Description: Datasheet; ComponentLink2URL: http://cds.linear.com/docs/en/datasheet/3956f.pdf; ComponentLink3Description: Package Specification; ComponentLink3URL: http://cds.linear.com/docs/en/packaging/QFN_28_05-08-1836.pdf
footprint LT-UHE-36-V-UHE28MA_V (QFN, 28-Leads, Body 6x5mm, Pitch 0.5mm)
part A pins: 2 EN/UVLO (in) "Shutdown and Undervoltage Detect Pin. An accurate 1.22V falling threshold with externally programmable hysteresis detects when power is OK to enable switching. Rising hysteresis is generated by the external resistor divider (See Datasheet)", 3 INTVCC (power) "Regulated supply for internal loads, GATE driver and PWMOUT driver. Supplied from VIN and regulates to 7.15V (typical). INTVCC must be bypassed with a 4.7uF capacitor placed close to the pin. Connect INTVCC directly to VIN (See Datasheet)", 6 VIN (power) "Input Supply Pin. Must be locally bypassed with a 0.22uF (or larger) capacitor to PGND placed close to the IC.", 8 SW (power) "The drain of the switching N-channel MOSFET and must be connected to the external inductor.", 9 SW (power) "The drain of the switching N-channel MOSFET and must be connected to the external inductor.", 20 SW (power) "The drain of the switching N-channel MOSFET and must be connected to the external inductor.", 21 SW (power) "The drain of the switching N-channel MOSFET and must be connected to the external inductor.", 23 PWMOUT (out) "Buffered Version of the PWM Signal. This pin is used to drive the LED load disconnect N-channel MOSFET or level shift. This pin also serves in a protection function for the FB overvoltage condition-will toggle if the FB (See Datasheet)", 25 FB (in) "Voltage Loop Feedback Pin. FB is intended for constant-voltage regulation or for LED protection/open LED detection. The internal transconductance amplifier with output VC will regulate FB to 1.25V (nominal) through the DC/DC (See Datasheet)", 27 ISN (in) "Connection point for the negative terminal of the current feedback resistor. If ISN is greater than 2.9V, the LED current can be programmed by ILED = 250mV/RLED when VCTRL > 1.2V or ILED = (VCTRL -100mV)/(4 ? RLED) i(See Datasheet)", 28 ISP (in) "Connection point for the positive terminal of the current feedback resistor. Input bias current for this pin depends on CTRL pin voltage, as shown in the Typical Performance Characteristics. ISP is an input to the (See Datasheet)", 30 VC "Transconductance Error Amplifier Output Pin. This pin is used to stabilize the voltage loop with an RC network. This pin is high impedance when PWM is low, a feature that stores the demand current state variable for the next (See Datasheet)", 31 CTRL (in) "Current Sense Threshold Adjustment Pin. Regula-ting threshold V(ISP - ISN) is 0.25 ? VCTRL plus an offset for 0V < VCTRL < 1V. For VCTRL > 1.2V the current sense threshold is constant at the full-scale value of 250mV. Fo(See Datasheet)", 32 VREF (out) "Voltage Reference Output Pin (typically 2V). This pin drives a resistor divider for the CTRL pin, either for analog dimming or for temperature limit/compensation of LED load. Can supply up to 100uA.", 33 PWM (in) "A signal low turns off switcher, idles oscillator and disconnects VC pin from all internal loads. PWMOUT pin follows PWM pin. PWM has an internal pull-down resistor. If not used, connect to INTVCC.", 34 ~{VMODE} (oc) "An open-collector pull-down on V\M\O\D\E\ asserts if the FB input is greater than the FB regulation threshold minus 50mV (typical). To function, the pin requires an external pull-up resistor. When the PWM input is low and (See Datasheet)", 35 SS (in) "Soft-Start Pin. This pin modulates oscillator frequency and compensation pin voltage (VC) clamp. The soft-start interval is set with an external capacitor. The pin has a 10uA (typical) pull-up current source to an internal 2.(See Datasheet)", 36 RT "Switching Frequency Adjustment Pin. Set the frequency using a resistor to GND (for resistor values, see the Typical Performance curve or Table 1). Do not leave the RT pin open.", 38 SW (power) "The exposed pad, Pin 38, is the drain of the switching N-channel MOSFET and must be connected to the external inductor."
part B pins: 1 NC "No Internal Connection. These pins may be left floating or connected to an adjacent pin.", 4 GND (power) "Ground. The exposed pad, Pin 37, is ground and must be soldered directly to the ground plane.", 10 NC "No Internal Connection. These pins may be left floating or connected to an adjacent pin.", 12 PGND (power) "Source terminal of switch and the GND input to the switch current comparator. Kelvin connect to the GND plane close to the IC using Pin 12.", 13 PGND (power) "Source terminal of switch and the GND input to the switch current comparator. Kelvin connect to the GND plane close to the IC using Pin 12. Pins 13 should be connected externally to the PGND terminals of components in the (See Datasheet)", 14 PGND (power) "Source terminal of switch and the GND input to the switch current comparator. Kelvin connect to the GND plane close to the IC using Pin 12. Pins 14 should be connected externally to the PGND terminals of components in the (See Datasheet)", 15 PGND (power) "Source terminal of switch and the GND input to the switch current comparator. Kelvin connect to the GND plane close to the IC using Pin 12. Pins 15 should be connected externally to the PGND terminals of components in the (See Datasheet)", 16 PGND (power) "Source terminal of switch and the GND input to the switch current comparator. Kelvin connect to the GND plane close to the IC using Pin 12. Pins 16 should be connected externally to the PGND terminals of components in the (See Datasheet)", 17 PGND (power) "Source terminal of switch and the GND input to the switch current comparator. Kelvin connect to the GND plane close to the IC using Pin 12. Pins 17 should be connected externally to the PGND terminals of components in the (See Datasheet)", 24 GND (power) "Ground.", 37 GND (power) "Ground. The exposed pad, Pin 37, is ground and must be soldered directly to the ground plane."